# Altium integrated library Altium_WS-SLTV (rev17b)edited2.IntLib: 2 symbols
Pins are listed as number, name and electrical type; pins without a type are passive.

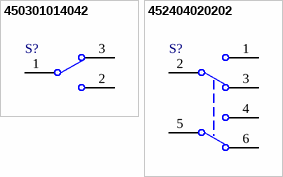
[diagram p0: symbols 450301014042 to 452404020202]

## 450301014042
designator S?
10x2.5mm THT WS-SLTV; Part Number: 450301014042; Rated Current: 500 mA; Operation Force: 800 gf; Rated Voltage: 12 VDC; ComponentLink1Description: Manufacturer; ComponentLink1URL: http://www.we-online.de; ComponentLink2Description: Datasheet; ComponentLink2URL: http://katalog.we-online.de/em/datasheet/450301014042.pdf; Published Date: Nov. 2017; Publisher: Wurth Elektronik; Life Cycle: 2000 steps; Operating Temperature: -40 to +85 degC; Size: 10x2.5x6.4 mm
footprint 450301014042 (THT Mini Slide Switch, body 10x2.5mm)
pins: 1 COM, 2, 3

## 452404020202
designator S?
9x3.5mm THT Same Side Connection Slide Switch WS-SLTV; Part Number: 452404020202; Rated Current: 300 mA; Operation Force: 450 gf; Rated Voltage: 6 VDC; ComponentLink1Description: Manufacturer; ComponentLink1URL: http://www.we-online.de; ComponentLink2Description: Datasheet; ComponentLink2URL: http://katalog.we-online.de/em/datasheet/452404020202.pdf; Published Date: Nov. 2017; Publisher: Wurth Elektronik; Life Cycle: 20000 steps; Operating Temperature: -40 to +85 degC; Size: 9x3.5x5.5 mm
footprint 452404020202 (THT Mini Slide Switch, body 9x3.5mm)
pins: 1, 2 COM, 3, 4, 5 COM, 6